# EAGLE library part MAX485ED (library lbr_rin9147)
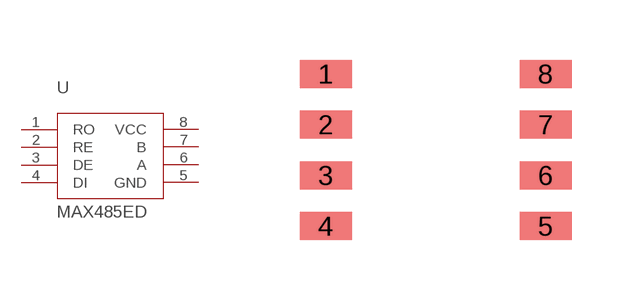
[diagram p12: symbol with the pads of MAX485ED_SOP; footprint MAX485ED_SOP]

Designator prefix -

## MAX485ED  [MAX485ED_SOP]
1  RO
2  RE
3  DE
4  DI
5  GND  pas
6  A
7  B
8  VCC  pas

## Footprint MAX485ED_SOP (pad centres in mm)
smd 1.3 x 0.7: 1 0,0; 2 0,-1.27; 3 0,-2.54; 4 0,-3.81; 5 5.5,-3.81; 6 5.5,-2.54; 7 5.5,-1.27; 8 5.5,0